# EAGLE library part ILQ620 (library optocoupler)
SIEMENS OPTO COUPLER
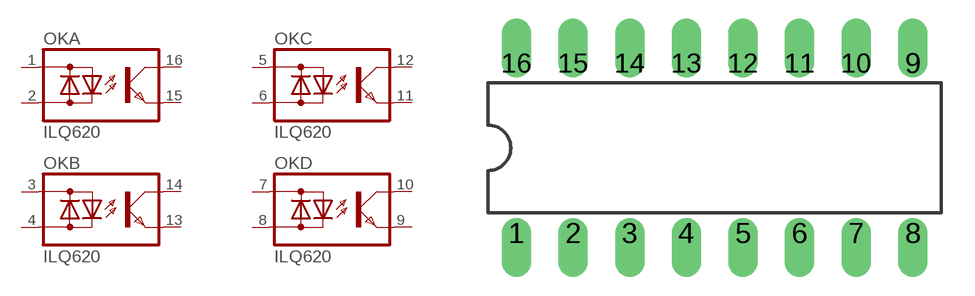
[diagram p1: symbol with the pads of DIL16; footprint DIL16]

Designator prefix OK; gates A=OK-LD B=OK-LD C=OK-LD D=OK-LD

## ILQ620 (MF: VISHAY/TELEFUNKEN; MPN: ILQ620; OC_FARNELL: 1612470; OC_NEWARK: 58K1694)  [DIL16]
1  A:AC1  pas
2  A:AC2  pas
3  B:AC1  pas
4  B:AC2  pas
5  C:AC1  pas
6  C:AC2  pas
7  D:AC1  pas
8  D:AC2  pas
9  D:E  pas
10  D:C  pas
11  C:E  pas
12  C:C  pas
13  B:E  pas
14  B:C  pas
15  A:E  pas
16  A:C  pas

## Footprint DIL16 (pad centres in mm)
Dual In Line Package
drill 0.813 offset: 1 -8.89,-3.81; 2 -6.35,-3.81; 3 -3.81,-3.81; 4 -1.27,-3.81; 5 1.27,-3.81; 6 3.81,-3.81; 7 6.35,-3.81; 8 8.89,-3.81; 9 8.89,3.81; 10 6.35,3.81; 11 3.81,3.81; 12 1.27,3.81; 13 -1.27,3.81; 14 -3.81,3.81; 15 -6.35,3.81; 16 -8.89,3.81